# Altium footprint library capacitors.pcblib: 24 footprints (part 2 of 2)
Each footprint in its own frame and in the unit in brackets; x right, y up, seen from the top. Pads: shape width x height; smd on the part's side, far side on the other; paste and mask are expansions set on the pad; w line width, h text height; cw(c..) or ccw(c..) is an arc to the next point about the centre after c.
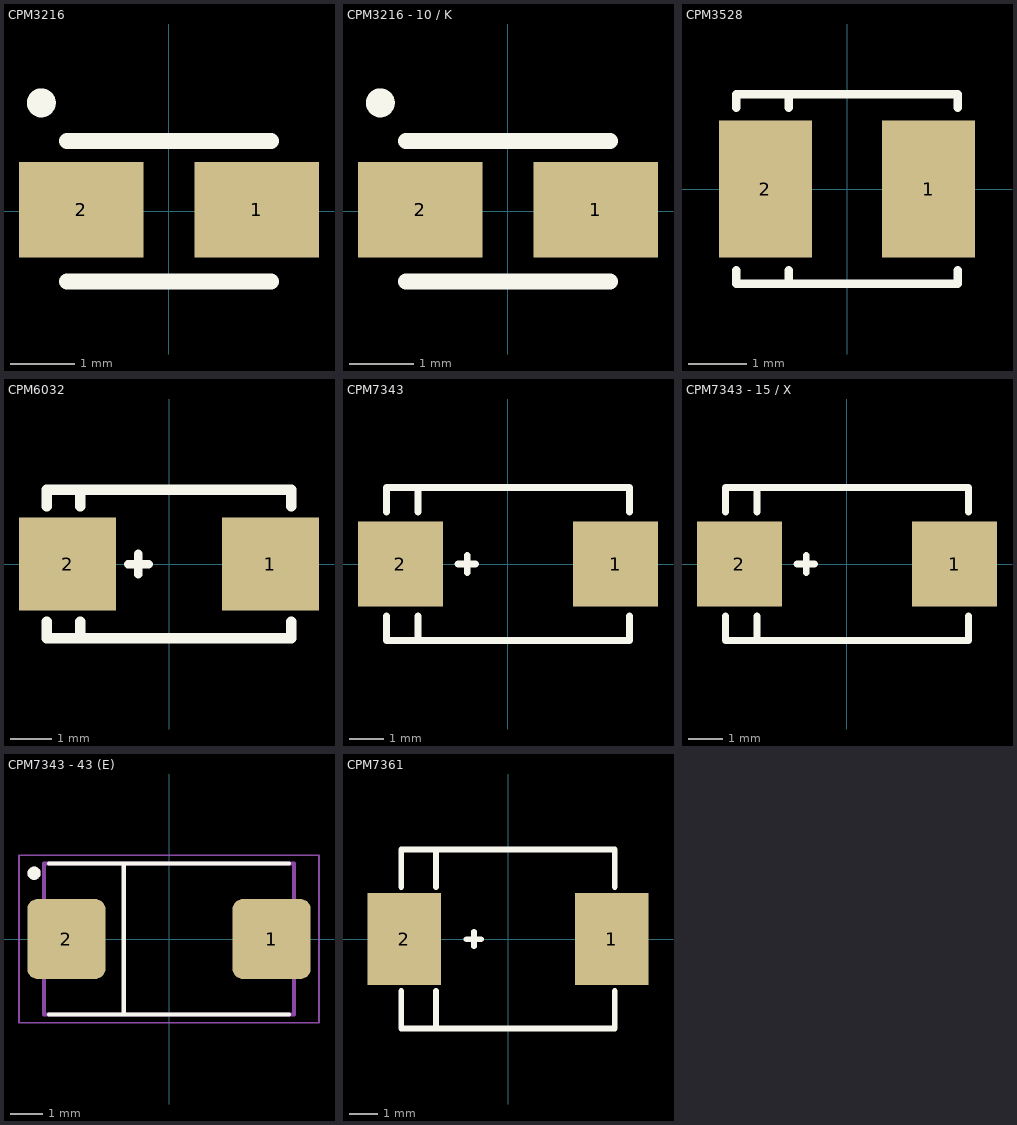
[diagram p1: the footprints below, top view; thin cyan lines are the x and y axes]

## CPM3216 [mm]
pads (2):
  rect 1.95x1.5 smd mask+0: 1(1.375,0.025) 2(-1.375,0.025)
Top Overlay:
  circle w0.254: c-2,1.7 r0.1
  lines w0.254: -1.6,-1.1 1.6,-1.1 ; -1.6,1.1 1.6,1.1
3D body "User Library-CAP_TANT_3216-18_A_case-1.step": height 1.7, standoff 0, extent -1.7,-0.9 1.7,0.9

## CPM3216 - 10 / K [mm]
pads (2):
  rect 1.95x1.5 smd mask+0: 1(1.375,0.025) 2(-1.375,0.025)
Top Overlay:
  circle w0.254: c-2,1.7 r0.1
  lines w0.254: -1.6,-1.1 1.6,-1.1 ; -1.6,1.1 1.6,1.1
3D body "A_case-1 new.st.stp": height 0.97, standoff -0.03, extent -1.7,-0.882 1.7,0.918

## CPM3528 [mm]
height 2
pads (2):
  rect 1.6x2.35 smd: 1(1.4,0) 2(-1.4,0)
Top Overlay:
  lines w0.15: -1.9,-1.4 -1.9,-1.625 1.9,-1.625 1.9,-1.4 ; -1.9,1.4 -1.9,1.625 1.9,1.625 1.9,1.4 ; -1,-1.625 -1,-1.4 ; -1,1.4 -1,1.625
3D body "CaseB_3528-21.step": height 1.9, standoff 0, extent -1.75,-1.4 1.75,1.4

## CPM6032 [mm]
height 5.08
pads (2):
  rect 2.35x2.25 smd: 1(2.45,0) 2(-2.45,0)
Top Overlay:
  lines w0.2: -0.99,-0.005 -0.49,-0.005 ; -0.74,-0.255 -0.74,0.245
  lines w0.254: -2.95,-1.4 -2.95,-1.8 2.95,-1.8 2.95,-1.4 ; -2.95,1.4 -2.95,1.8 2.95,1.8 2.95,1.4 ; -2.15,-1.8 -2.15,-1.4 ; -2.15,1.4 -2.15,1.8
3D body "cap_c.step": height 2.51, standoff 0, extent -2.997,-1.6 2.997,1.6

## CPM7343 [mm]
height 2
pads (2):
  rect 2.45x2.45 smd: 1(3.1,0) 2(-3.1,0)
Top Overlay:
  lines w0.2: -3.5,-1.5 -3.5,-2.2 3.5,-2.2 3.5,-1.5 ; -3.5,1.5 -3.5,2.2 3.5,2.2 3.5,1.5 ; -2.6,-2.2 -2.6,-1.5 ; -2.6,1.5 -2.6,2.2 ; -1.44,-0.005 -0.94,-0.005 ; -1.175,-0.25 -1.175,0.25
3D body "cap_d.step": height 2.81, standoff 0, extent -3.647,-2.15 3.647,2.15

## CPM7343 - 15 / X [mm]
height 2
pads (2):
  rect 2.45x2.45 smd: 1(3.1,0) 2(-3.1,0)
Top Overlay:
  lines w0.2: -3.5,-1.5 -3.5,-2.2 3.5,-2.2 3.5,-1.5 ; -3.5,1.5 -3.5,2.2 3.5,2.2 3.5,1.5 ; -2.6,-2.2 -2.6,-1.5 ; -2.6,1.5 -2.6,2.2 ; -1.44,-0.005 -0.94,-0.005 ; -1.175,-0.25 -1.175,0.25
3D body "User Library-tantulum cap 7343.stp": height 1.52, standoff 0.02, extent -3.65,-2.15 3.65,2.15

## CPM7343 - 43 (E) [mm]
pads (2):
  rrect25% 2.37x2.43 smd: 1(3.12,0) 2(-3.12,0)
Top Overlay:
  circle w0.2: c-4.1,2 r0.1
  lines w0.127: -3.65,-2.3 3.65,-2.3 ; -3.65,2.3 3.65,2.3 ; -1.375,-2.3 -1.375,2.275
Plata3D:
  circle w0.2: c-4.1,2 r0.1
  lines w0.127: -3.8,-2.3 3.8,-2.3 3.8,2.3 -3.8,2.3 -3.8,-2.3
Board3D:
  lines w0.05: -4.56,-2.55 -4.56,2.55 4.56,2.55 4.56,-2.55 -4.56,-2.55
3D body "7343-43.STEP": height 4.31, standoff 0.01, extent -3.65,-2.15 3.65,2.15

## CPM7361 [mm]
pads (2):
  rect 2.55x3.2 smd: 1(3.6,0) 2(-3.6,0)
Top Overlay:
  lines w0.2: -3.7,-1.8 -3.7,-3.1 3.7,-3.1 3.7,-1.8 ; -3.7,1.8 -3.7,3.1 3.7,3.1 3.7,1.8 ; -2.5,-3.1 -2.5,-1.8 ; -2.5,1.8 -2.5,3.1 ; -1.44,-0.005 -0.94,-0.005 ; -1.175,-0.25 -1.175,0.25
3D body "User Library-CT_V.step": height 3.45, standoff 0, extent -3.65,-3.05 3.65,3.05